# Altium footprint library PcbLib.PcbLib: 2 footprints
Each footprint in its own frame and in the unit in brackets; x right, y up, seen from the top. Pads: shape width x height; smd on the part's side, far side on the other; paste and mask are expansions set on the pad; w line width, h text height; cw(c..) or ccw(c..) is an arc to the next point about the centre after c.
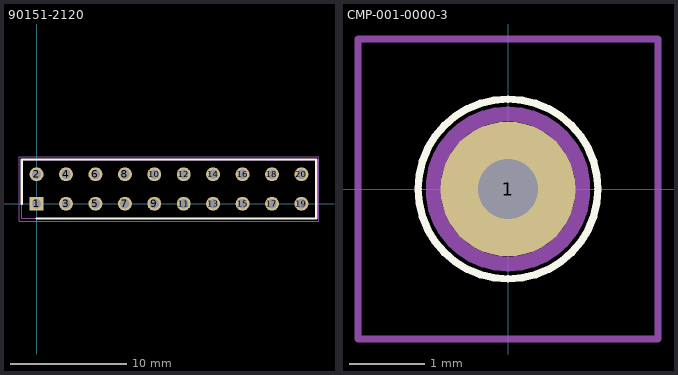
[diagram p0: the footprints below, top view; thin cyan lines are the x and y axes]

## 90151-2120 [mm]
pads (20):
  rect 1.2x1.2 hole 0.8: 1(0,0)
  round 1.2 hole 0.8: 2(0,2.54) 3(2.54,0) 4(2.54,2.54) 5(5.08,0) 6(5.08,2.54) 7(7.62,0) 8(7.62,2.54) 9(10.16,0) 10(10.16,2.54) 11(12.7,0) 12(12.7,2.54) 13(15.24,0) 14(15.24,2.54) 15(17.78,0) 16(17.78,2.54) 17(20.32,0) 18(20.32,2.54) 19(22.86,0) 20(22.86,2.54)
Top Overlay:
  lines w0.2: -1.27,0 -1.27,3.81 24.13,3.81 24.13,-1.27 0,-1.27
Bottom Overlay:
  lines w0.2: -1.27,0 -1.27,3.81 24.13,3.81 24.13,-1.27 0,-1.27
Mechanical 13:
  lines w0.1: -1.27,-1.27 -1.27,3.81 24.13,3.81 24.13,-1.27 -1.27,-1.27
Mechanical 15:
  lines w0.05: -1.52,-1.52 -1.52,4.06 24.38,4.06 24.38,-1.52 -1.52,-1.52
3D body "90151-2120.stp": height 8.38, standoff -3.02, extent -1.27,-1.27 24.13,3.81

## CMP-001-0000-3 [mm]
pads (1):
  round 1.8 hole 0.8 mask-2539.97: 1(0,0)
Top Overlay:
  lines w0.1: -1.2,0 ccw(c0,0) 1.2,0 ccw(c0,0) -1.2,0
Top Solder:
  circle w0.9: c0,0 r0.45
Bottom Solder:
  circle w0.9: c0,0 r0.45
Mechanical 13:
  lines w0.2: 0,-1 cw(c0,0) 0,1 cw(c0,0) 0,-1
Mechanical 15:
  lines w0.1: -2,-2 2,-2 2,2 -2,2 -2,-2
3D body "S13-503.stp": height 12.72, standoff -5.03, extent -0.485,-0.481 0.485,0.475